# EAGLE library part K6F1616T6B (library memory-samsung)
1M X 16 bit CMOS SRAM 3.3V low power/voltage
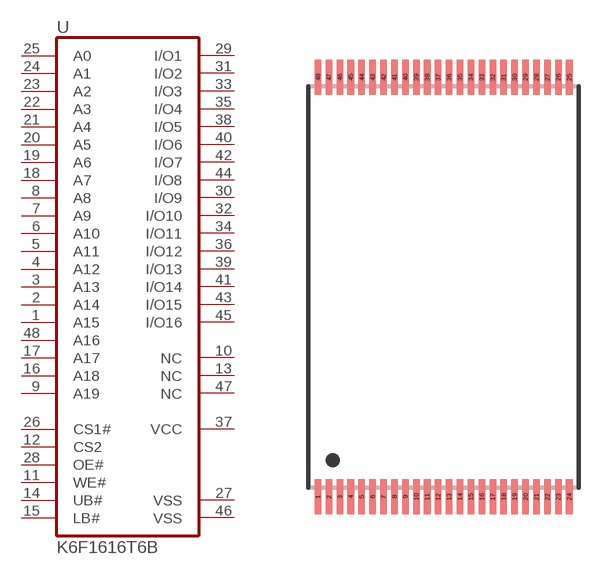
[diagram p2: symbol with the pads of TSOP48; footprint TSOP48]

Designator prefix U

## K6F1616T6B-TF  [TSOP48]
1  A15  in
2  A14  in
3  A13  in
4  A12  in
5  A11  in
6  A10  in
7  A9  in
8  A8  in
9  A19  in
10  NC1  nc
11  WE#  in
12  CS2  in
13  NC2  nc
14  UB#  in
15  LB#  in
16  A18  in
17  A17  in
18  A7  in
19  A6  in
20  A5  in
21  A4  in
22  A3  in
23  A2  in
24  A1  in
25  A0  in
26  CS1#  in
27  VSS1  pwr
28  OE#  in
29  I/O1
30  I/O9
31  I/O2
32  I/O10
33  I/O3
34  I/O11
35  I/O4
36  I/O12
37  VCC  pwr
38  I/O5
39  I/O13
40  I/O6
41  I/O14
42  I/O7
43  I/O15
44  I/O8
45  I/O16
46  VSS2  pwr
47  NC3  nc
48  A16  in

## Footprint TSOP48 (pad centres in mm)
48-TSOP1-1220F, Samsung
smd 0.3 x 1.6: 1 -5.75,-9.6; 2 -5.25,-9.6; 3 -4.75,-9.6; 4 -4.25,-9.6; 5 -3.75,-9.6; 6 -3.25,-9.6; 7 -2.75,-9.6; 8 -2.25,-9.6; 9 -1.75,-9.6; 10 -1.25,-9.6; 11 -0.75,-9.6; 12 -0.25,-9.6; 13 0.25,-9.6; 14 0.75,-9.6; 15 1.25,-9.6; 16 1.75,-9.6; 17 2.25,-9.6; 18 2.75,-9.6; 19 3.25,-9.6; 20 3.75,-9.6; 21 4.25,-9.6; 22 4.75,-9.6; 23 5.25,-9.6; 24 5.75,-9.6; 25 5.75,9.6; 26 5.25,9.6; 27 4.75,9.6; 28 4.25,9.6; 29 3.75,9.6; 30 3.25,9.6; 31 2.75,9.6; 32 2.25,9.6; 33 1.75,9.6; 34 1.25,9.6; 35 0.75,9.6; 36 0.25,9.6; 37 -0.25,9.6; 38 -0.75,9.6; 39 -1.25,9.6; 40 -1.75,9.6; 41 -2.25,9.6; 42 -2.75,9.6; 43 -3.25,9.6; 44 -3.75,9.6; 45 -4.25,9.6; 46 -4.75,9.6; 47 -5.25,9.6; 48 -5.75,9.6